# EAGLE library part P82B96DP,118 (library NXP_By_element14_Batch_1)
Dual bidirectional bus buffer
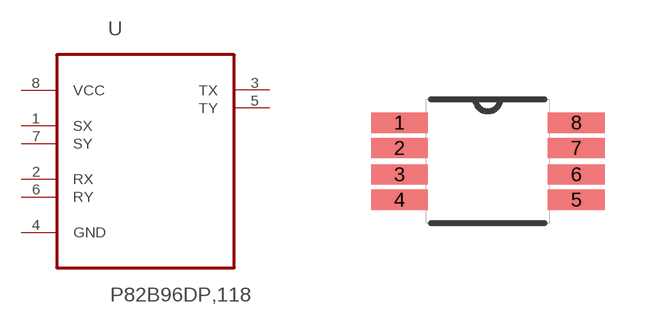
[diagram p396: symbol with the pads of SOP65P490X110-8N; footprint SOP65P490X110-8N]

Designator prefix U

## P82B96DP,118 (MPN: P82B96DP,118; OC_FARNELL: 1831235; OC_NEWARK: 70R8458; P1I: o; PACKAGE: TSSOP-8; SUPPLIER: NXP Semiconductors)  [SOP65P490X110-8N]
1  SX
2  RX  in
3  TX  out
4  GND  pas
5  TY  out
6  RY  in
7  SY
8  VCC  pwr

## Footprint SOP65P490X110-8N (pad centres in mm)
smd 1.422 x 0.508: 1 -2.21,0.965; 2 -2.21,0.33; 3 -2.21,-0.33; 4 -2.21,-0.965; 5 2.21,-0.965; 6 2.21,-0.33; 7 2.21,0.33; 8 2.21,0.965